# EAGLE library part ADS1298 (library ADC)
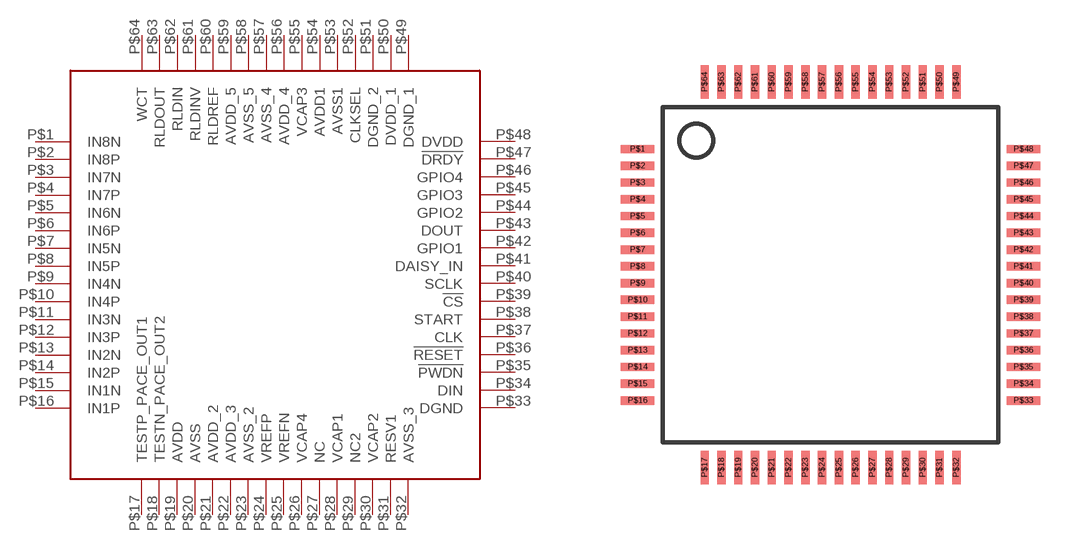
[diagram p1: symbol with the pads of LQFP64; footprint LQFP64]

Designator prefix -

## ADS1298  [LQFP64]
P$1  IN8N
P$2  IN8P
P$3  IN7N
P$4  IN7P
P$5  IN6N
P$6  IN6P
P$7  IN5N
P$8  IN5P
P$9  IN4N
P$10  IN4P
P$11  IN3N
P$12  IN3P
P$13  IN2N
P$14  IN2P
P$15  IN1N
P$16  IN1P
P$17  TESTP_PACE_OUT1
P$18  TESTN_PACE_OUT2
P$19  AVDD
P$20  AVSS
P$21  AVDD_2
P$22  AVDD_3
P$23  AVSS_2
P$24  VREFP
P$25  VREFN
P$26  VCAP4
P$27  NC
P$28  VCAP1
P$29  NC2
P$30  VCAP2
P$31  RESV1
P$32  AVSS_3
P$33  DGND
P$34  DIN
P$35  !PWDN
P$36  !RESET
P$37  CLK
P$38  START
P$39  !CS
P$40  SCLK
P$41  DAISY_IN
P$42  GPIO1
P$43  DOUT
P$44  GPIO2
P$45  GPIO3
P$46  GPIO4
P$47  !DRDY
P$48  DVDD
P$49  DGND_1
P$50  DVDD_1
P$51  DGND_2
P$52  CLKSEL
P$53  AVSS1
P$54  AVDD1
P$55  VCAP3
P$56  AVDD_4
P$57  AVSS_4
P$58  AVSS_5
P$59  AVDD_5
P$60  RLDREF
P$61  RLDINV
P$62  RLDIN
P$63  RLDOUT
P$64  WCT

## Footprint LQFP64 (pad centres in mm)
smd 1 x 0.25: P$1 -1.25,-0.75; P$2 -1.25,-1.25; P$3 -1.25,-1.75; P$4 -1.25,-2.25; P$5 -1.25,-2.75; P$6 -1.25,-3.25; P$7 -1.25,-3.75; P$8 -1.25,-4.25; P$9 -1.25,-4.75; P$10 -1.25,-5.25; P$11 -1.25,-5.75; P$12 -1.25,-6.25; P$13 -1.25,-6.75; P$14 -1.25,-7.25; P$15 -1.25,-7.75; P$16 -1.25,-8.25; P$33 10.25,-8.25; P$34 10.25,-7.75; P$35 10.25,-7.25; P$36 10.25,-6.75; P$37 10.25,-6.25; P$38 10.25,-5.75; P$39 10.25,-5.25; P$40 10.25,-4.75; P$41 10.25,-4.25; P$42 10.25,-3.75; P$43 10.25,-3.25; P$44 10.25,-2.75; P$45 10.25,-2.25; P$46 10.25,-1.75; P$47 10.25,-1.25; P$48 10.25,-0.75
smd 0.25 x 1: P$17 0.75,-10.25; P$18 1.25,-10.25; P$19 1.75,-10.25; P$20 2.25,-10.25; P$21 2.75,-10.25; P$22 3.25,-10.25; P$23 3.75,-10.25; P$24 4.25,-10.25; P$25 4.75,-10.25; P$26 5.25,-10.25; P$27 5.75,-10.25; P$28 6.25,-10.25; P$29 6.75,-10.25; P$30 7.25,-10.25; P$31 7.75,-10.25; P$32 8.25,-10.25; P$49 8.25,1.25; P$50 7.75,1.25; P$51 7.25,1.25; P$52 6.75,1.25; P$53 6.25,1.25; P$54 5.75,1.25; P$55 5.25,1.25; P$56 4.75,1.25; P$57 4.25,1.25; P$58 3.75,1.25; P$59 3.25,1.25; P$60 2.75,1.25; P$61 2.25,1.25; P$62 1.75,1.25; P$63 1.25,1.25; P$64 0.75,1.25